# EAGLE library part REFAC.C8021-11 (library ads4)
REFAC C8021-11 7-Segment Common Cathode LED
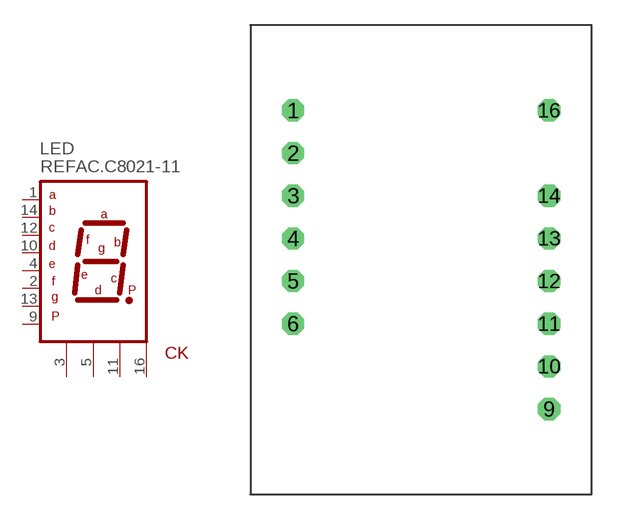
[diagram p16: symbol with the pads of REFAC.C8021-11; footprint REFAC.C8021-11]

Designator prefix LED

## REFAC.C8021-11  [REFAC.C8021-11]
1  A  pas
2  F  pas
3  CK1  pas
4  E  pas
5  CK2  pas
9  DP  pas
10  D  pas
11  CK3  pas
12  C  pas
13  G  pas
14  B  pas
16  CK4  pas

## Footprint REFAC.C8021-11 (pad centres in mm)
REFAC C8021-11 Common Cathode 7-Segment LED
drill 0.813 octagon: 1 -7.62,8.89; 2 -7.62,6.35; 3 -7.62,3.81; 4 -7.62,1.27; 5 -7.62,-1.27; 6 -7.62,-3.81; 9 7.62,-8.89; 10 7.62,-6.35; 11 7.62,-3.81; 12 7.62,-1.27; 13 7.62,1.27; 14 7.62,3.81; 16 7.62,8.89